# EAGLE library part OP2_7 (library macros)
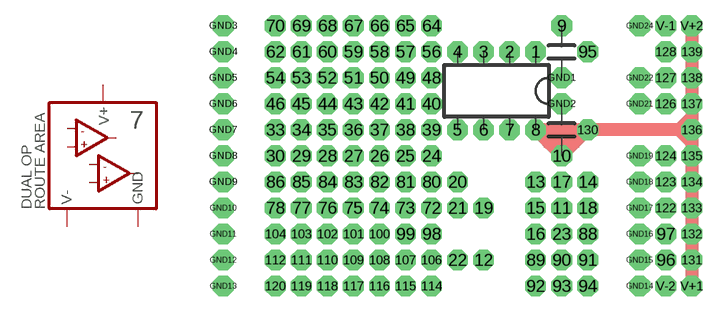
[diagram p5: symbol with the pads of OP2_7; footprint OP2_7]

Designator prefix $

## OP2_7  [OP2_7]
GND1  GND  pwr
GND2  GND  pwr
GND3  GND  pwr
GND4  GND  pwr
GND5  GND  pwr
GND6  GND  pwr
GND7  GND  pwr
GND8  GND  pwr
GND9  GND  pwr
GND10  GND  pwr
GND11  GND  pwr
GND12  GND  pwr
GND13  GND  pwr
GND14  GND  pwr
GND15  GND  pwr
GND16  GND  pwr
GND17  GND  pwr
GND18  GND  pwr
GND19  GND  pwr
GND21  GND  pwr
GND22  GND  pwr
GND24  GND  pwr
V+1  V+  pwr
V+2  V+  pwr
V-1  V-  pwr
V-2  V-  pwr

## Footprint OP2_7 (pad centres in mm)
drill 0.813 pad 2.032 octagon: 1 0,0; 2 -2.54,0; 3 -5.08,0; 4 -7.62,0; 5 -7.62,-7.62; 6 -5.08,-7.62; 7 -2.54,-7.62; 8 0,-7.62; 9 2.54,2.54; 10 2.54,-10.16; 11 2.54,-15.24; 12 -5.08,-20.32; 13 0,-12.7; 14 5.08,-12.7; 15 0,-15.24; 16 0,-17.78; 17 2.54,-12.7; 18 5.08,-15.24; 19 -5.08,-15.24; 20 -7.62,-12.7; 21 -7.62,-15.24; 22 -7.62,-20.32; 23 2.54,-17.78; 24 -10.16,-10.16; 25 -12.7,-10.16; 26 -15.24,-10.16; 27 -17.78,-10.16; 28 -20.32,-10.16; 29 -22.86,-10.16; 30 -25.4,-10.16; 33 -25.4,-7.62; 34 -22.86,-7.62; 35 -20.32,-7.62; 36 -17.78,-7.62; 37 -15.24,-7.62; 38 -12.7,-7.62; 39 -10.16,-7.62; 40 -10.16,-5.08; 41 -12.7,-5.08; 42 -15.24,-5.08; 43 -17.78,-5.08; 44 -20.32,-5.08; 45 -22.86,-5.08; 46 -25.4,-5.08; 48 -10.16,-2.54; 49 -12.7,-2.54; 50 -15.24,-2.54; 51 -17.78,-2.54; 52 -20.32,-2.54; 53 -22.86,-2.54; 54 -25.4,-2.54; 56 -10.16,0; 57 -12.7,0; 58 -15.24,0; 59 -17.78,0; 60 -20.32,0; 61 -22.86,0; 62 -25.4,0; 64 -10.16,2.54; 65 -12.7,2.54; 66 -15.24,2.54; 67 -17.78,2.54; 68 -20.32,2.54; 69 -22.86,2.54; 70 -25.4,2.54; 72 -10.16,-15.24; 73 -12.7,-15.24; 74 -15.24,-15.24; 75 -17.78,-15.24; 76 -20.32,-15.24; 77 -22.86,-15.24; 78 -25.4,-15.24; 80 -10.16,-12.7; 81 -12.7,-12.7; 82 -15.24,-12.7; 83 -17.78,-12.7; 84 -20.32,-12.7; 85 -22.86,-12.7; 86 -25.4,-12.7; 88 5.08,-17.78; 89 0,-20.32; 90 2.54,-20.32; 91 5.08,-20.32; 92 0,-22.86; 93 2.54,-22.86; 94 5.08,-22.86; 95 5.08,0; 96 12.7,-20.32; 97 12.7,-17.78; 98 -10.16,-17.78; 99 -12.7,-17.78; 100 -15.24,-17.78; 101 -17.78,-17.78; 102 -20.32,-17.78; 103 -22.86,-17.78; 104 -25.4,-17.78; 106 -10.16,-20.32; 107 -12.7,-20.32; 108 -15.24,-20.32; 109 -17.78,-20.32; 110 -20.32,-20.32; 111 -22.86,-20.32; 112 -25.4,-20.32; 114 -10.16,-22.86; 115 -12.7,-22.86; 116 -15.24,-22.86; 117 -17.78,-22.86; 118 -20.32,-22.86; 119 -22.86,-22.86; 120 -25.4,-22.86; 122 12.7,-15.24; 123 12.7,-12.7; 124 12.7,-10.16; 126 12.7,-5.08; 127 12.7,-2.54; 128 12.7,0; 130 5.08,-7.62; 131 15.24,-20.32; 132 15.24,-17.78; 133 15.24,-15.24; 134 15.24,-12.7; 135 15.24,-10.16; 136 15.24,-7.62; 137 15.24,-5.08; 138 15.24,-2.54; 139 15.24,0; GND1 2.54,-2.54; GND2 2.54,-5.08; GND3 -30.48,2.54; GND4 -30.48,0; GND5 -30.48,-2.54; GND6 -30.48,-5.08; GND7 -30.48,-7.62; GND8 -30.48,-10.16; GND9 -30.48,-12.7; GND10 -30.48,-15.24; GND11 -30.48,-17.78; GND12 -30.48,-20.32; GND13 -30.48,-22.86; GND14 10.16,-22.86; GND15 10.16,-20.32; GND16 10.16,-17.78; GND17 10.16,-15.24; GND18 10.16,-12.7; GND19 10.16,-10.16; GND21 10.16,-5.08; GND22 10.16,-2.54; GND24 10.16,2.54; V+1 15.24,-22.86; V+2 15.24,2.54; V-1 12.7,2.54; V-2 12.7,-22.86